# Altium footprint library BxB-PH-SM-TB.PcbLib: 9 footprints
Each footprint in its own frame and in the unit in brackets; x right, y up, seen from the top. Pads: shape width x height; smd on the part's side, far side on the other; paste and mask are expansions set on the pad; w line width, h text height; cw(c..) or ccw(c..) is an arc to the next point about the centre after c.
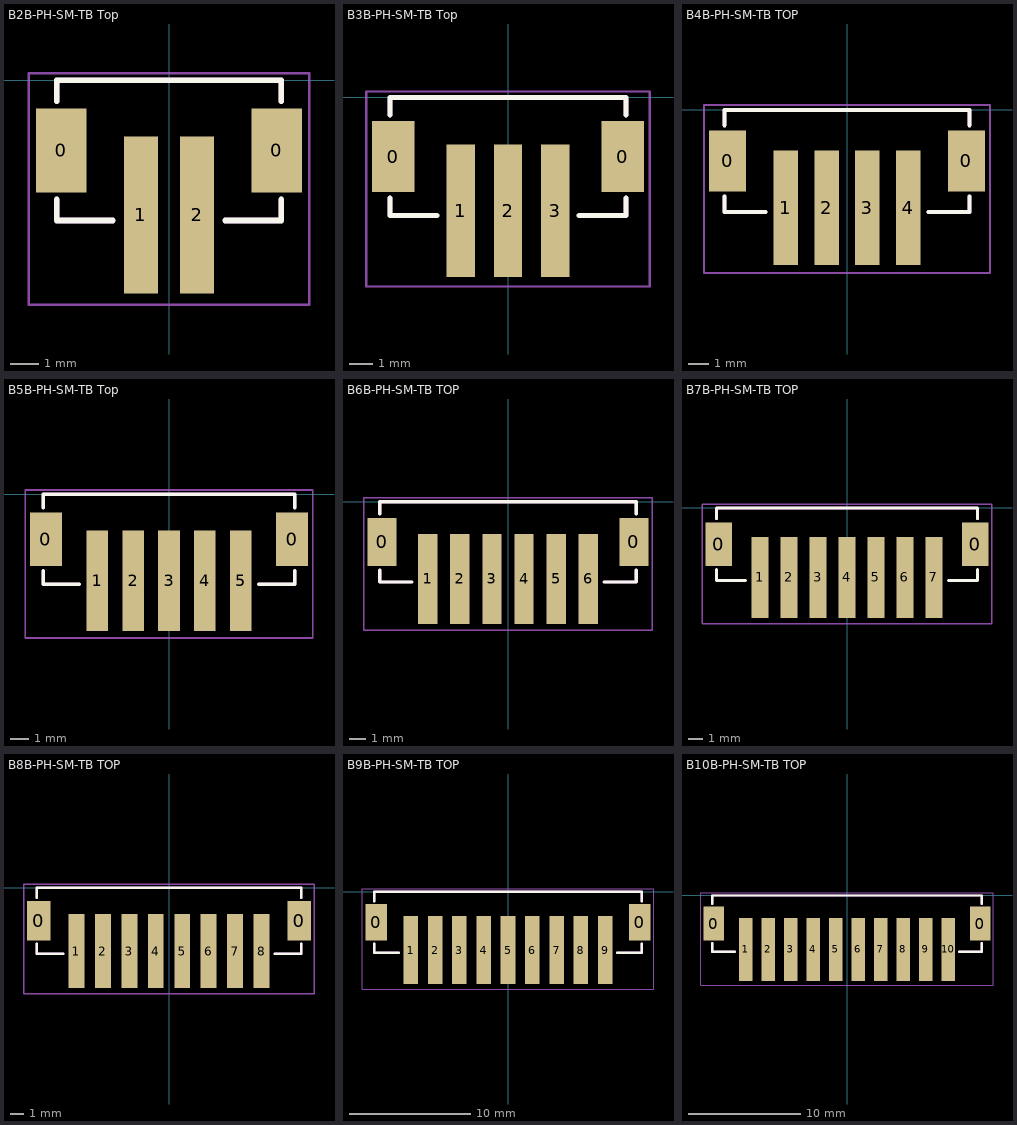
[diagram p0: the footprints below, top view; thin cyan lines are the x and y axes]

## B2B-PH-SM-TB Top [mm]
pads (4):
  rect 1.8x3 smd: 0(-3.85,-2.5) 0(3.85,-2.5)
  rect 1.2x5.6 smd: 1(-1,-4.8) 2(1,-4.8)
Top Overlay:
  lines w0.2: -4,-4.25 -4,-5 -2,-5 ; -4,-0.75 -4,0 4,0 4,-0.75 ; 2,-5 4,-5 4,-4.25
Top Assy:
  lines w0.2: -4,-4.25 -4,-5 -2,-5 ; -4,-0.75 -4,0 4,0 4,-0.75 ; 2,-5 4,-5 4,-4.25
Border:
  lines w0.1: -5,-8 -5,0.25 5,0.25 5,-8 -5,-8
3D body "B2B-PH-SM-TB.stp": height 6.62, standoff 0, extent -3.975,-7 3.975,0

## B3B-PH-SM-TB Top [mm]
pads (5):
  rect 1.8x3 smd: 0(-4.85,-2.5) 0(4.85,-2.5)
  rect 1.2x5.6 smd: 1(-2,-4.8) 2(0,-4.8) 3(2,-4.8)
Top Overlay:
  lines w0.2: -5,-4.25 -5,-5 -3,-5 ; -5,-0.75 -5,0 5,0 5,-0.75 ; 3,-5 5,-5 5,-4.25
Top Assy:
  lines w0.2: -5,-4.25 -5,-5 -3,-5 ; -5,-0.75 -5,0 5,0 5,-0.75 ; 3,-5 5,-5 5,-4.25
Border:
  lines w0.1: -6,-8 6,-8 6,0.25 -6,0.25 -6,-8
3D body "B3B-PH-SM-TB.stp": height 6.62, standoff 0, extent -4.975,-7 4.975,0

## B4B-PH-SM-TB TOP [mm]
pads (6):
  rect 1.8x3 smd: 0(-5.85,-2.5) 0(5.85,-2.5)
  rect 1.2x5.6 smd: 1(-3,-4.8) 2(-1,-4.8) 3(1,-4.8) 4(3,-4.8)
Top Overlay:
  lines w0.2: -6,-4.25 -6,-5 -4,-5 ; -6,-0.75 -6,0 6,0 6,-0.75 ; 4,-5 6,-5 6,-4.25
Top Assy:
  lines w0.2: -6,-4.25 -6,-5 -4,-5 ; -6,-0.75 -6,0 6,0 6,-0.75 ; 4,-5 6,-5 6,-4.25
Border:
  lines w0.1: -7,-8 -7,0.25 7,0.25 7,-8 -7,-8
3D body "B4B-PH-SM-TB.stp": height 6.62, standoff 0, extent -5.975,-7 5.975,0

## B5B-PH-SM-TB Top [mm]
pads (7):
  rect 1.8x3 smd: 0(-6.85,-2.5) 0(6.85,-2.5)
  rect 1.2x5.6 smd: 1(-4,-4.8) 2(-2,-4.8) 3(0,-4.8) 4(2,-4.8) 5(4,-4.8)
Top Overlay:
  lines w0.2: -7,-4.25 -7,-5 -5,-5 ; -7,-0.75 -7,0 7,0 7,-0.75 ; 5,-5 7,-5 7,-4.25
Top Assy:
  lines w0.2: -7,-4.25 -7,-5 -5,-5 ; -7,-0.75 -7,0 7,0 7,-0.75 ; 5,-5 7,-5 7,-4.25
Border:
  lines w0.1: -8,-8 8,-8 8,0.25 -8,0.25 -8,-8
3D body "B5B-PH-SM-TB.stp": height 6.62, standoff 0, extent -6.975,-7 6.975,0

## B6B-PH-SM-TB TOP [mm]
pads (8):
  rect 1.8x3 smd: 0(-7.85,-2.5) 0(7.85,-2.5)
  rect 1.2x5.6 smd: 1(-5,-4.8) 2(-3,-4.8) 3(-1,-4.8) 4(1,-4.8) 5(3,-4.8) 6(5,-4.8)
Top Overlay:
  lines w0.2: -8,-4.25 -8,-5 -6,-5 ; -8,-0.75 -8,0 8,0 8,-0.75 ; 6,-5 8,-5 8,-4.25
Top Assy:
  lines w0.2: -8,-4.25 -8,-5 -6,-5 ; -8,-0.75 -8,0 8,0 8,-0.75 ; 6,-5 8,-5 8,-4.25
Border:
  lines w0.1: -9,-8 -9,0.25 9,0.25 9,-8 -9,-8
3D body "B6B-PH-SM-TB.stp": height 6.62, standoff 0, extent -7.975,-7 7.975,0

## B7B-PH-SM-TB TOP [mm]
pads (9):
  rect 1.8x3 smd: 0(-8.85,-2.5) 0(8.85,-2.5)
  rect 1.2x5.6 smd: 1(-6,-4.8) 2(-4,-4.8) 3(-2,-4.8) 4(0,-4.8) 5(2,-4.8) 6(4,-4.8) 7(6,-4.8)
Top Overlay:
  lines w0.2: -9,-4.25 -9,-5 -7,-5 ; -9,-0.75 -9,0 9,0 9,-0.75 ; 7,-5 9,-5 9,-4.25
Top Assy:
  lines w0.2: -9,-4.25 -9,-5 -7,-5 ; -9,-0.75 -9,0 9,0 9,-0.75 ; 7,-5 9,-5 9,-4.25
Border:
  lines w0.1: -10,-8 10,-8 10,0.25 -10,0.25 -10,-8
3D body "B7B-PH-SM-TB.stp": height 6.62, standoff 0, extent -8.975,-7 8.975,0

## B8B-PH-SM-TB TOP [mm]
pads (10):
  rect 1.8x3 smd: 0(-9.85,-2.5) 0(9.85,-2.5)
  rect 1.2x5.6 smd: 1(-7,-4.8) 2(-5,-4.8) 3(-3,-4.8) 4(-1,-4.8) 5(1,-4.8) 6(3,-4.8) 7(5,-4.8) 8(7,-4.8)
Top Overlay:
  lines w0.2: -10,-4.25 -10,-5 -8,-5 ; -10,-0.75 -10,0 10,0 10,-0.75 ; 8,-5 10,-5 10,-4.25
Top Assy:
  lines w0.2: -10,-4.25 -10,-5 -8,-5 ; -10,-0.75 -10,0 10,0 10,-0.75 ; 8,-5 10,-5 10,-4.25
Border:
  lines w0.1: -11,-8 11,-8 11,0.25 -11,0.25 -11,-8
3D body "B8B-PH-SM-TB.stp": height 6.62, standoff 0, extent -9.975,-7 9.975,0

## B9B-PH-SM-TB TOP [mm]
pads (11):
  rect 1.8x3 smd: 0(-10.85,-2.5) 0(10.85,-2.5)
  rect 1.2x5.6 smd: 1(-8,-4.8) 2(-6,-4.8) 3(-4,-4.8) 4(-2,-4.8) 5(0,-4.8) 6(2,-4.8) 7(4,-4.8) 8(6,-4.8) 9(8,-4.8)
Top Overlay:
  lines w0.2: -11,-4.25 -11,-5 -9,-5 ; -11,-0.75 -11,0 11,0 11,-0.75 ; 9,-5 11,-5 11,-4.25
Top Assy:
  lines w0.2: -11,-4.25 -11,-5 -9,-5 ; -11,-0.75 -11,0 11,0 11,-0.75 ; 9,-5 11,-5 11,-4.25
Border:
  lines w0.1: -12,-8 -12,0.25 12,0.25 12,-8 -12,-8
3D body "B9B-PH-SM-TB.stp": height 6.62, standoff 0, extent -10.975,-7 10.975,0

## B10B-PH-SM-TB TOP [mm]
pads (12):
  rect 1.8x3 smd: 0(-11.85,-2.5) 0(11.85,-2.5)
  rect 1.2x5.6 smd: 1(-9,-4.8) 2(-7,-4.8) 3(-5,-4.8) 4(-3,-4.8) 5(-1,-4.8) 6(1,-4.8) 7(3,-4.8) 8(5,-4.8) 9(7,-4.8) 10(9,-4.8)
Top Overlay:
  lines w0.2: -12,-4.25 -12,-5 -10,-5 ; -12,-0.75 -12,0 12,0 12,-0.75 ; 10,-5 12,-5 12,-4.25
Top Assy:
  lines w0.2: -12,-4.25 -12,-5 -10,-5 ; -12,-0.75 -12,0 12,0 12,-0.75 ; 10,-5 12,-5 12,-4.25
Border:
  lines w0.1: -13,-8 13,-8 13,0.25 -13,0.25 -13,-8
3D body "B10B-PH-SM-TB.stp": height 6.62, standoff 0, extent -11.975,-7 11.975,0